# Altium footprint library Package_SIP.PcbLib: 16 footprints
Each footprint in its own frame and in the unit in brackets; x right, y up, seen from the top. Pads: shape width x height; smd on the part's side, far side on the other; paste and mask are expansions set on the pad; w line width, h text height; cw(c..) or ccw(c..) is an arc to the next point about the centre after c.
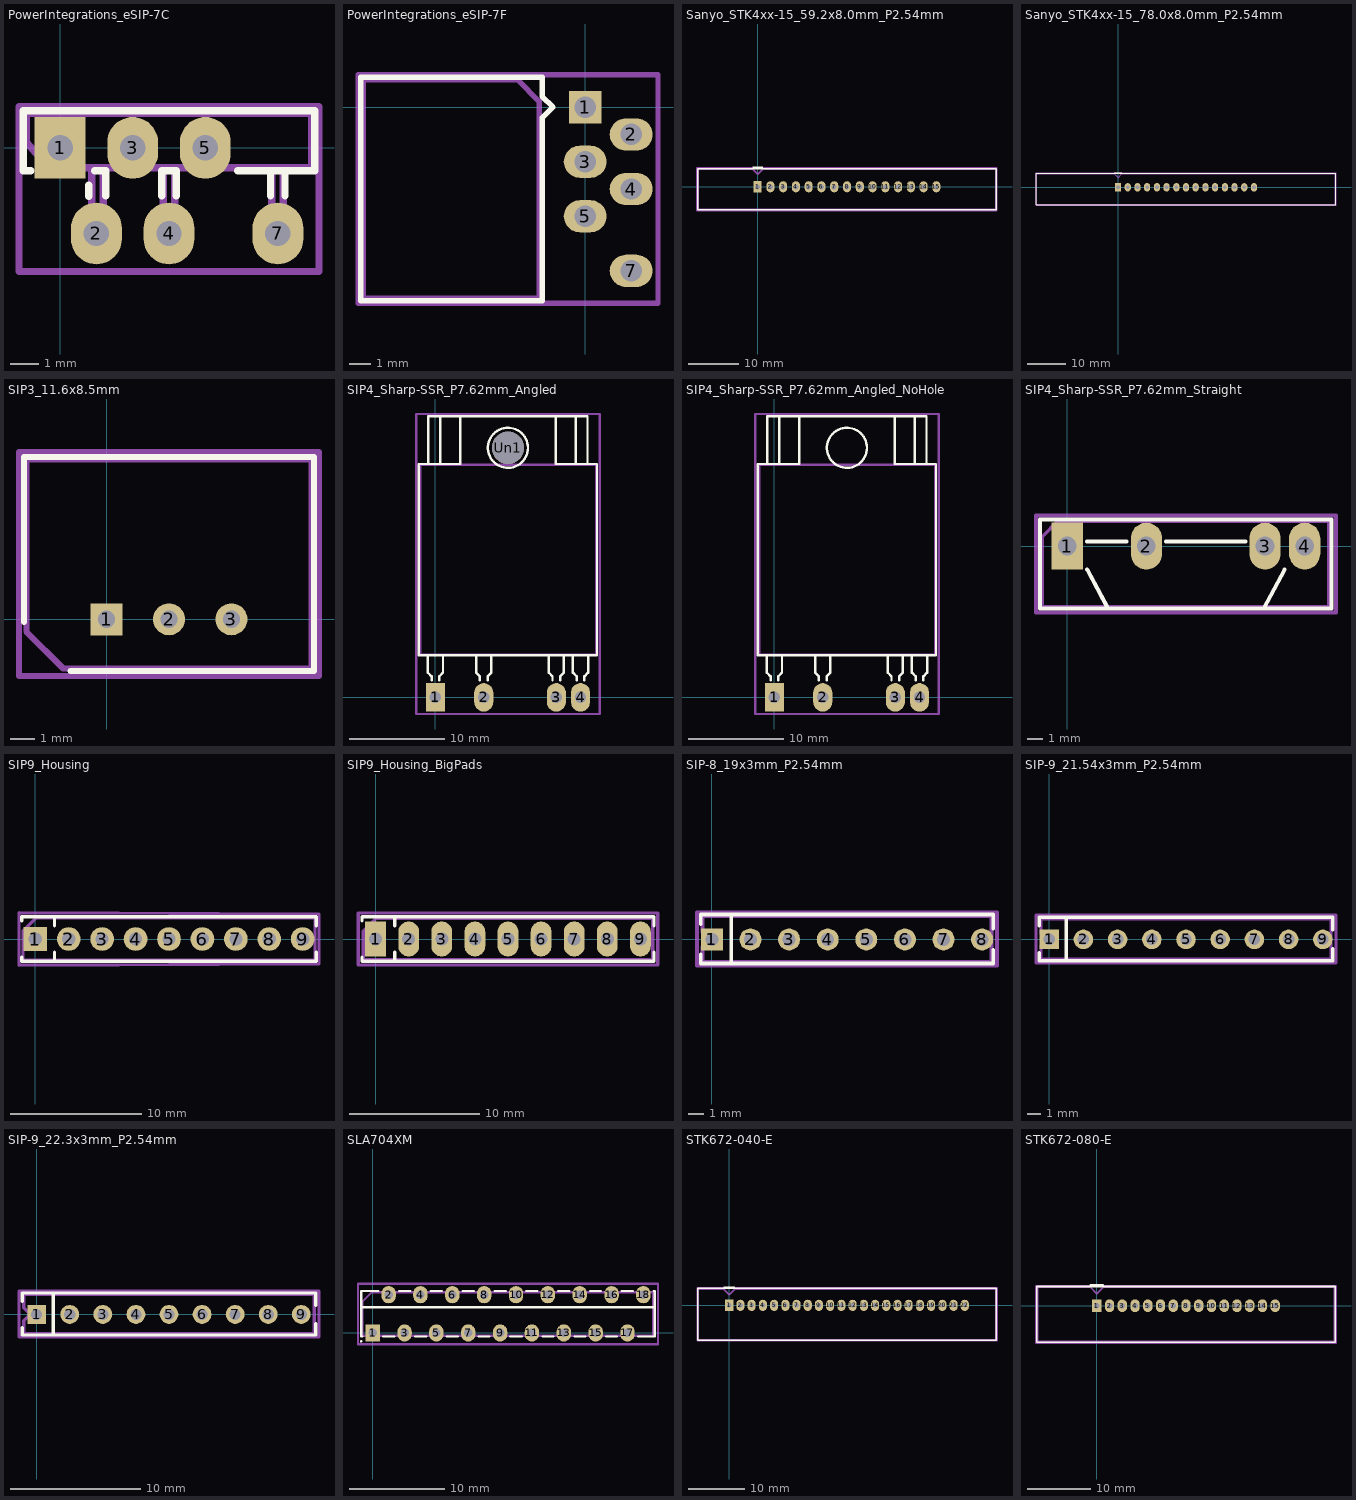
[diagram p0: the footprints below, top view; thin cyan lines are the x and y axes]

## PowerIntegrations_eSIP-7C [mil]
pads (6):
  rect 70x85 hole 35: 1(0,0)
  rrect100% 70x85 hole 35: 2(50,-118) 3(100,0) 4(150,-118) 5(200,0) 7(300,-118)
F.SilkS:
  lines w10: -40,-31.44 -50.79,-31.44 -50.79,51.24 349.21,51.24 ; 39.37,-66.93 39.37,-51.18 ; 47.24,-31.5 62.99,-31.5 62.99,-66.5 ; 140,-66.5 140,-31.5 160,-31.5 160,-66.5 ; 244.49,-31.44 350.79,-31.44 350.79,51.24 ; 290,-66.5 290,-31.5 ; 310,-66.5 310,-31.5
F.Fab:
  lines w10: 43.7,-27.5 43.7,-118.06 59.45,-118.06 59.45,-27.5 ; 142.13,-27.5 142.13,-118.06 157.87,-118.06 157.87,-27.5 ; 291.73,-27.5 291.73,-118.06 307.48,-118.06 307.48,-27.5 ; -46.85,7.93 -15.35,-27.5 346.85,-27.5 346.85,47.3 -46.85,47.3 -46.85,7.93
  text "'.Designator'" at -9.32,-25.15 h39.37
F.CrtYd:
  lines w10: -56.69,-170.47 356.69,-170.47 356.69,57.09 -56.69,57.09 -56.69,-170.47
3D body "PowerIntegrations_eSIP-7C.step": height 448.43, standoff -71.06, extent -50,-124.9 350,50.98

## PowerIntegrations_eSIP-7F [mm]
pads (6):
  rect 1.5x1.5 hole 1: 1(0,0)
  rrect100% 2x1.5 hole 1: 2(2.14,-1.27) 3(0,-2.54) 4(2.14,-3.81) 5(0,-5.08) 7(2.14,-7.62)
F.SilkS:
  lines w0.254: -10.46,-9.02 -10.46,1.4 -2.01,1.4 -2.01,0.5 -1.51,0 -2.01,-0.5 -2.01,-9.02 -10.46,-9.02
F.Fab:
  lines w0.254: -10.33,-8.89 -10.33,1.27 -3.14,1.27 -2.14,0.27 -2.14,-8.89 -10.33,-8.89
  text "'.Designator'" at -10.287,-4.65 h1
F.CrtYd:
  lines w0.254: -10.58,-9.14 -10.58,1.52 3.39,1.52 3.39,-9.14 -10.58,-9.14
3D body "PowerIntegrations_eSIP-7F.step": height 2.16, standoff -2.31, extent -10.335,-8.89 2.312,1.27

## Sanyo_STK4xx-15_59.2x8.0mm_P2.54mm [mm]
pads (15):
  rect 1.6x2.2 hole 1: 1(0,0)
  rrect100% 1.6x2.2 hole 1: 2(2.54,0) 3(5.08,0) 4(7.62,0) 5(10.16,0) 6(12.7,0) 7(15.24,0) 8(17.78,0) 9(20.32,0) 10(22.86,0) 11(25.4,0) 12(27.94,0) 13(30.48,0) 14(33.02,0) 15(35.56,0)
F.SilkS:
  lines w0.254: -11.94,3.62 47.5,3.62 47.5,-4.62 -11.94,-4.62 -11.94,3.63 ; -1,3.86 1,3.86
F.Fab:
  lines w0.254: -11.82,-4.5 47.38,-4.5 47.38,3.5 1,3.5 0,2.5 -1,3.5 -11.82,3.5 -11.82,-4.5
  text "'.Designator'" at 13.733,-0.84 h1
F.CrtYd:
  lines w0.254: 47.6,-4.75 -12.07,-4.75 -12.07,3.75 47.63,3.75 47.63,-4.75
3D body "Sanyo_STK4xx-15_59.2x8.0mm_P2.54mm.step": height 35.5, standoff -6.15, extent -11.82,-4 47.38,4

## Sanyo_STK4xx-15_78.0x8.0mm_P2.54mm [mm]
pads (15):
  rect 1.6x2.2 hole 1: 1(0,0)
  rrect100% 1.6x2.2 hole 1: 2(2.54,0) 3(5.08,0) 4(7.62,0) 5(10.16,0) 6(12.7,0) 7(15.24,0) 8(17.78,0) 9(20.32,0) 10(22.86,0) 11(25.4,0) 12(27.94,0) 13(30.48,0) 14(33.02,0) 15(35.56,0)
F.SilkS:
  lines w0.254: -21.34,3.62 56.9,3.62 56.9,-4.62 -21.34,-4.62 -21.34,3.63 ; -1,3.86 1,3.86
F.Fab:
  lines w0.254: -21.22,-4.5 56.78,-4.5 56.78,3.5 1,3.5 0,2.5 -1,3.5 -21.22,3.5 -21.22,-4.5
  text "'.Designator'" at 13.733,-0.84 h1
F.CrtYd:
  lines w0.254: -21.47,-4.75 57.03,-4.75 57.03,3.75 -21.47,3.75 -21.47,-4.75
3D body "Sanyo_STK4xx-15_78.0x8.0mm_P2.54mm.step": height 47.5, standoff -6.15, extent -21.152,-4 56.711,4

## SIP3_11.6x8.5mm [mm]
pads (3):
  rect 1.3x1.3 hole 0.7: 1(0,0)
  round 1.3 hole 0.7: 2(2.54,0) 3(5.08,0)
F.SilkS:
  lines w0.254: -3.36,-0.1 -3.36,6.6 8.44,6.6 8.44,-2.1 -1.46,-2.1
F.Fab:
  lines w0.254: -3.26,-0.5 -1.76,-2 8.34,-2 8.34,6.5 -3.26,6.5 -3.26,-0.5
  text "'.Designator'" at -1.507,1.86 h1
F.CrtYd:
  lines w0.254: -3.56,-2.3 8.64,-2.3 8.64,6.8 -3.56,6.8 -3.56,-2.3

## SIP4_Sharp-SSR_P7.62mm_Angled [mm]
pads (5):
  rect 2x3 hole 1.2: 1(0,0)
  rrect100% 2x3 hole 1.2: 2(5.08,0) 3(12.7,0) 4(15.24,0)
  round 3.4 hole 3.4: Un1(7.62,26.2)
F.SilkS:
  circle w0.254: c7.62,26.2 r2.105
  lines w0.254: -0.73,24.5 -0.73,29.5 15.97,29.5 15.97,24.5 ; 0.52,24.5 0.52,29.5 ; 2.62,29.5 2.62,24.5 -1.73,24.5 -1.73,4.4 16.97,4.4 16.97,24.5 12.62,24.5 12.62,29.5 ; 14.72,24.5 14.72,29.5 ; -0.8,2.6 -0.8,3.2 ; -0.8,2.6 -0.8,3.2 ; -0.8,2.6 -0.4,2.2 ; -0.8,2.6 -0.4,2.2 ; -0.8,3.2 -0.8,4.4 -0.8,3.2 ; -0.4,2.2 -0.4,1.8 -0.4,2.2 ; 0.4,2.2 0.8,2.6 ; 0.4,2.2 0.8,2.6 ; 0.4,2.2 0.4,1.8 0.4,2.2 ; 0.8,2.6 0.8,4.4 0.8,2.6 ; 4.28,2.6 4.28,3.2 ; 4.28,2.6 4.28,3.2 ; 4.28,2.6 4.68,2.2 ; 4.28,2.6 4.68,2.2 ; 4.28,3.2 4.28,4.4 4.28,3.2 ; 4.68,2.2 4.68,1.8 4.68,2.2 ; 5.48,2.2 5.88,2.6 ; 5.48,2.2 5.88,2.6 ; 5.48,2.2 5.48,1.8 5.48,2.2 ; 5.88,2.6 5.88,4.4 5.88,2.6 ; 11.9,2.6 11.9,3.2 ; 11.9,2.6 11.9,3.2 ; 11.9,2.6 12.3,2.2 ; 11.9,2.6 12.3,2.2 ; 11.9,3.2 11.9,4.4 11.9,3.2 ; 12.3,2.2 12.3,1.8 12.3,2.2 ; 13.1,2.2 13.5,2.6 ; 13.1,2.2 13.5,2.6 ; 13.1,2.2 13.1,1.8 13.1,2.2 ; 13.5,2.6 13.5,4.4 13.5,2.6 ; 14.44,2.6 14.44,3.2 ; 14.44,2.6 14.44,3.2 ; 14.44,2.6 14.84,2.2 ; 14.44,2.6 14.84,2.2 ; 14.44,3.2 14.44,4.4 14.44,3.2 ; 14.84,2.2 14.84,1.8 14.84,2.2 ; 15.64,2.2 16.04,2.6 ; 15.64,2.2 16.04,2.6 ; 15.64,2.2 15.64,1.8 15.64,2.2 ; 16.04,2.6 16.04,4.4 16.04,2.6
F.Fab:
  lines w0.254: -1.6,4.5 -1.6,24.4 16.9,24.4 16.9,4.5 -1.6,4.5
  text "'.Designator'" at 3.573,12.36 h1
F.CrtYd:
  lines w0.254: -2,-1.75 -2,29.75 17.25,29.75 17.25,-1.75 -2,-1.75
3D body "SIP4_Sharp-SSR_P7.62mm_Angled.step": height 5.6, standoff -4.9, extent -1.63,-0.3 16.87,29.1

## SIP4_Sharp-SSR_P7.62mm_Angled_NoHole [mm]
pads (4):
  rect 2x3 hole 1.2: 1(0,0)
  rrect100% 2x3 hole 1.2: 2(5.08,0) 3(12.7,0) 4(15.24,0)
F.SilkS:
  circle w0.254: c7.62,26.2 r2.105
  lines w0.254: -0.73,24.5 -0.73,29.5 15.97,29.5 15.97,24.5 ; 0.52,24.5 0.52,29.5 ; 2.62,29.5 2.62,24.5 -1.73,24.5 -1.73,4.4 16.97,4.4 16.97,24.5 12.62,24.5 12.62,29.5 ; 14.72,24.5 14.72,29.5 ; -0.8,2.6 -0.8,3.2 ; -0.8,2.6 -0.8,3.2 ; -0.8,2.6 -0.4,2.2 ; -0.8,2.6 -0.4,2.2 ; -0.8,3.2 -0.8,4.4 -0.8,3.2 ; -0.4,2.2 -0.4,1.8 -0.4,2.2 ; 0.4,2.2 0.8,2.6 ; 0.4,2.2 0.8,2.6 ; 0.4,2.2 0.4,1.8 0.4,2.2 ; 0.8,2.6 0.8,4.4 0.8,2.6 ; 4.28,2.6 4.28,3.2 ; 4.28,2.6 4.28,3.2 ; 4.28,2.6 4.68,2.2 ; 4.28,2.6 4.68,2.2 ; 4.28,3.2 4.28,4.4 4.28,3.2 ; 4.68,2.2 4.68,1.8 4.68,2.2 ; 5.48,2.2 5.88,2.6 ; 5.48,2.2 5.88,2.6 ; 5.48,2.2 5.48,1.8 5.48,2.2 ; 5.88,2.6 5.88,4.4 5.88,2.6 ; 11.9,2.6 11.9,3.2 ; 11.9,2.6 11.9,3.2 ; 11.9,2.6 12.3,2.2 ; 11.9,2.6 12.3,2.2 ; 11.9,3.2 11.9,4.4 11.9,3.2 ; 12.3,2.2 12.3,1.8 12.3,2.2 ; 13.1,2.2 13.5,2.6 ; 13.1,2.2 13.5,2.6 ; 13.1,2.2 13.1,1.8 13.1,2.2 ; 13.5,2.6 13.5,4.4 13.5,2.6 ; 14.44,2.6 14.44,3.2 ; 14.44,2.6 14.44,3.2 ; 14.44,2.6 14.84,2.2 ; 14.44,2.6 14.84,2.2 ; 14.44,3.2 14.44,4.4 14.44,3.2 ; 14.84,2.2 14.84,1.8 14.84,2.2 ; 15.64,2.2 16.04,2.6 ; 15.64,2.2 16.04,2.6 ; 15.64,2.2 15.64,1.8 15.64,2.2 ; 16.04,2.6 16.04,4.4 16.04,2.6
F.Fab:
  lines w0.254: -1.6,4.5 -1.6,24.4 16.9,24.4 16.9,4.5 -1.6,4.5
  text "'.Designator'" at 3.573,-0.84 h1
F.CrtYd:
  lines w0.254: -2,-1.75 -2,29.75 17.25,29.75 17.25,-1.75 -2,-1.75
3D body "SIP4_Sharp-SSR_P7.62mm_Angled.step": height 5.6, standoff -4.9, extent -1.63,-0.3 16.87,29.1

## SIP4_Sharp-SSR_P7.62mm_Straight [mm]
pads (4):
  rect 2x3 hole 1.2: 1(0,0)
  rrect100% 2x3 hole 1.2: 2(5.08,0) 3(12.7,0) 4(15.24,0)
F.SilkS:
  lines w0.254: 1.27,0.3 3.81,0.3 ; 1.28,-1.5 2.62,-4 ; 6.35,0.3 11.43,0.3 ; 12.62,-4 13.96,-1.5 ; -1.73,-4 -1.73,1.7 16.97,1.7 16.97,-4 -1.73,-4
F.Fab:
  lines w0.254: -1.6,-3.9 -1.6,0.6 -0.6,1.6 16.8,1.6 16.8,-3.9 -1.6,-3.9
  text "'.Designator'" at 3.573,-0.84 h1
F.CrtYd:
  lines w0.254: -2,-4.25 -2,1.95 17.25,1.95 17.25,-4.25 -2,-4.25
3D body "SIP4_Sharp-SSR_P7.62mm_Straight.step": height 27.6, standoff -8.2, extent -1.63,-3.8 16.87,1.7

## SIP9_Housing [mm]
pads (9):
  rect 1.8x1.8 hole 1: 1(0,0)
  round 1.8 hole 1: 2(2.54,0) 3(5.08,0) 4(7.62,0) 5(10.16,0) 6(12.7,0) 7(15.24,0) 8(17.78,0) 9(20.32,0)
F.SilkS:
  lines w0.254: -1.04,-1.4 -1.04,-1.7 10.16,-1.7 21.36,-1.7 21.36,-1 ; -1.04,1.4 -1.04,1.7 10.26,1.7 ; 1.46,-1.7 1.46,-1 ; 1.46,1 1.46,1.7 ; 10.16,1.7 21.36,1.7 21.36,1.1 ; 21.36,1 21.36,1.2
F.Fab:
  lines w0.254: -0.94,-1.6 21.26,-1.6 21.26,1.6 0.06,1.6 -0.94,0.6 -0.94,-1.6
  text "'.Designator'" at 6.113,-0.84 h1
F.CrtYd:
  lines w0.254: -1.24,-2 21.56,-1.9 21.56,1.9 -1.24,2 -1.24,-2

## SIP9_Housing_BigPads [mm]
pads (9):
  rect 1.6x2.7 hole 1: 1(0,0)
  rrect100% 1.6x2.7 hole 1: 2(2.54,0) 3(5.08,0) 4(7.62,0) 5(10.16,0) 6(12.7,0) 7(15.24,0) 8(17.78,0) 9(20.32,0)
F.SilkS:
  lines w0.254: -1.04,-1.4 -1.04,-1.7 10.16,-1.7 21.36,-1.7 21.36,-1 ; -1.04,1.4 -1.04,1.7 10.26,1.7 ; 1.46,-1.7 1.46,-1 ; 1.46,1 1.46,1.7 ; 10.16,1.7 21.36,1.7 21.36,1.1 ; 21.36,1 21.36,1.2
F.Fab:
  lines w0.254: -0.94,-1.6 21.26,-1.6 21.26,1.6 0.06,1.6 -0.94,0.6 -0.94,-1.6
  text "'.Designator'" at 6.113,-0.84 h1
F.CrtYd:
  lines w0.254: -1.34,-2 21.66,-2 21.66,2 -1.34,2 -1.34,-2

## SIP-8_19x3mm_P2.54mm [mm]
pads (8):
  rect 1.45x1.45 hole 0.85: 1(0,0)
  round 1.45 hole 0.85: 2(2.54,0) 3(5.08,0) 4(7.62,0) 5(10.16,0) 6(12.7,0) 7(15.24,0) 8(17.78,0)
F.SilkS:
  lines w0.254: -0.73,-1 -0.73,-1.59 18.51,-1.59 18.51,-0.7 ; -0.73,1 -0.73,1.65 18.51,1.65 18.51,0.7 ; 1.27,-1.59 1.27,1.65
F.Fab:
  lines w0.254: -0.61,-1.47 18.39,-1.47 18.39,1.53 -0.61,1.53 -0.61,0.5 -0.11,0 -0.61,-0.5 -0.61,-1.47
  text "'.Designator'" at 4.843,-0.84 h1
F.CrtYd:
  lines w0.254: -0.98,-1.72 18.76,-1.72 18.76,1.78 -0.98,1.78 -0.98,-1.72
3D body "SIP-8_19x3mm_P2.54mm.step": height 7.7, standoff -3, extent -0.61,-1.5 18.39,1.5

## SIP-9_21.54x3mm_P2.54mm [mm]
pads (9):
  rect 1.45x1.45 hole 0.85: 1(0,0)
  round 1.45 hole 0.85: 2(2.54,0) 3(5.08,0) 4(7.62,0) 5(10.16,0) 6(12.7,0) 7(15.24,0) 8(17.78,0) 9(20.32,0)
F.SilkS:
  lines w0.254: -0.73,-1 -0.73,-1.59 21.05,-1.59 21.05,-0.7 ; -0.73,1 -0.73,1.65 21.05,1.65 21.05,0.7 ; 1.27,-1.59 1.27,1.65
F.Fab:
  lines w0.254: -0.61,-1.47 20.93,-1.47 20.93,1.53 -0.61,1.53 -0.61,0.5 -0.11,0 -0.61,-0.5 -0.61,-1.47
  text "'.Designator'" at 6.113,-0.84 h1
F.CrtYd:
  lines w0.254: -0.98,-1.72 21.3,-1.72 21.3,1.78 -0.98,1.78 -0.98,-1.72
3D body "SIP-9_21.54x3mm_P2.54mm.step": height 7.7, standoff -3, extent -0.635,-1.5 20.905,1.5

## SIP-9_22.3x3mm_P2.54mm [mm]
pads (9):
  rect 1.45x1.45 hole 0.85: 1(0,0)
  round 1.45 hole 0.85: 2(2.54,0) 3(5.08,0) 4(7.62,0) 5(10.16,0) 6(12.7,0) 7(15.24,0) 8(17.78,0) 9(20.32,0)
F.SilkS:
  lines w0.254: -1.11,-1 -1.11,-1.59 21.43,-1.59 21.43,-0.7 ; -1.11,1 -1.11,1.65 21.43,1.65 21.43,0.7 ; 1.27,-1.59 1.27,1.65
F.Fab:
  lines w0.254: -0.99,-1.47 21.31,-1.47 21.31,1.53 -0.99,1.53 -0.99,0.5 -0.49,0 -0.99,-0.5 -0.99,-1.47
  text "'.Designator'" at 6.113,-0.84 h1
F.CrtYd:
  lines w0.254: -1.36,-1.72 21.68,-1.72 21.68,1.78 -1.36,1.78 -1.36,-1.72

## SLA704XM [mm]
pads (18):
  rect 1.524x1.824 hole 0.9: 1(0,0)
  rrect100% 1.524x1.824 hole 0.9: 2(1.68,4.04) 3(3.36,0) 4(5.04,4.04) 5(6.72,0) 6(8.4,4.04) 7(10.08,0) 8(11.76,4.04) 9(13.44,0) 10(15.12,4.04) 11(16.8,0) 12(18.48,4.04) 13(20.16,0) 14(21.84,4.04) 15(23.52,0) 16(25.2,4.04) 17(26.88,0) 18(28.56,4.04)
F.SilkS:
  circle w0.254: c-1.22,-0.88 r0.01
  lines w0.254: -1.212,2.721 29.776,2.721 ; -1.085,-0.377 -1.212,-0.377 -1.212,4.423 0.591,4.423 ; 1.099,-0.377 2.268,-0.377 ; 2.776,4.423 3.944,4.423 ; 4.477,-0.377 5.646,-0.377 ; 6.128,4.423 7.297,4.423 ; 7.805,-0.377 8.973,-0.377 ; 9.481,4.423 10.675,4.423 ; 11.183,-0.377 12.326,-0.377 ; 12.859,4.423 14.028,4.423 ; 14.51,-0.377 15.704,-0.377 ; 16.212,4.423 17.381,4.423 ; 17.914,-0.377 19.057,-0.377 ; 19.565,4.423 20.733,4.423 ; 21.292,-0.377 22.41,-0.377 ; 22.943,4.423 24.086,4.423 ; 24.645,-0.377 25.763,-0.377 ; 26.296,4.423 27.464,4.423 ; 27.998,-0.377 29.776,-0.377 29.776,4.423 29.623,4.423
F.Fab:
  lines w0.254: -1.1,-0.3 -1.1,3.3 -0.1,4.3 29.6,4.3 29.6,-0.3 -1.1,-0.3
  text "'.Designator'" at 10.233,1.18 h1
F.CrtYd:
  lines w0.254: -1.55,-1.2 -1.55,5.2 30.1,5.2 30.1,-1.2 -1.55,-1.2
3D body "SLA704XM.step": height 22.7, standoff -3, extent -1.22,-0.275 29.78,4.8

## STK672-040-E [mm]
pads (22):
  rect 1.45x2 hole 0.85: 1(0,0)
  rrect100% 1.45x2 hole 0.85: 2(2,0) 3(4,0) 4(6,0) 5(8,0) 6(10,0) 7(12,0) 8(14,0) 9(16,0) 10(18,0) 11(20,0) 12(22,0) 13(24,0) 14(26,0) 15(28,0) 16(30,0) 17(32,0) 18(34,0) 19(36,0) 20(38,0) 21(40,0) 22(42,0)
F.SilkS:
  lines w0.254: -1,3.26 1,3.26 ; -5.62,-6.22 -5.62,3.02 47.62,3.02 47.62,-6.22 -5.62,-6.22
F.Fab:
  lines w0.254: -5.5,-6.1 -5.5,2.9 -1,2.9 0,1.9 1,2.9 47.5,2.9 47.5,-6.1 -5.5,-6.1
  text "'.Designator'" at 16.953,-0.84 h1
F.CrtYd:
  lines w0.254: -5.75,-6.35 -5.75,3.15 47.75,3.15 47.75,-6.35 -5.75,-6.35
3D body "STK672-040-E.step": height 23, standoff -3.6, extent -5.5,-6.1 47.5,2.9

## STK672-080-E [mm]
pads (15):
  rect 1.45x2 hole 0.85: 1(0,0)
  rrect100% 1.45x2 hole 0.85: 2(2,0) 3(4,0) 4(6,0) 5(8,0) 6(10,0) 7(12,0) 8(14,0) 9(16,0) 10(18,0) 11(20,0) 12(22,0) 13(24,0) 14(26,0) 15(28,0)
F.SilkS:
  lines w0.254: -1,3.26 1,3.26 ; -9.42,-5.72 37.42,-5.72 37.42,3.02 -9.42,3.02 -9.42,-5.72
F.Fab:
  lines w0.254: -9.3,-5.6 37.3,-5.6 37.3,2.9 1,2.9 0,1.9 -1,2.9 -9.3,2.9 -9.3,-5.6
  text "'.Designator'" at 9.953,-0.84 h1
F.CrtYd:
  lines w0.254: -9.55,-5.85 37.55,-5.85 37.55,3.15 -9.55,3.15 -9.55,-5.85
3D body "STK672-080-E.step": height 26.6, standoff -3.6, extent -9.3,-5.85 37.3,2.65